# Altium footprint library MSOP8.PcbLib: 1 footprints
Each footprint in its own frame and in the unit in brackets; x right, y up, seen from the top. Pads: shape width x height; smd on the part's side, far side on the other; paste and mask are expansions set on the pad; w line width, h text height; cw(c..) or ccw(c..) is an arc to the next point about the centre after c.
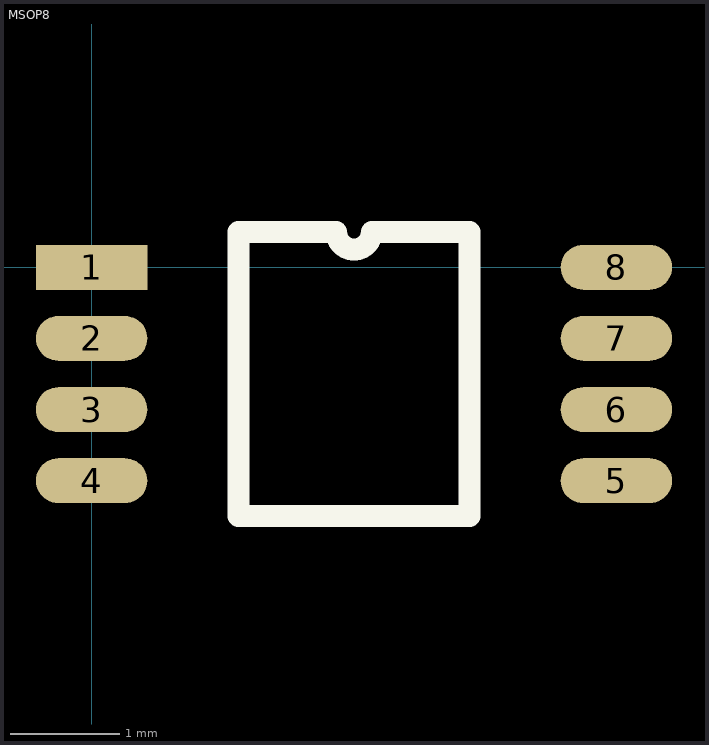
[diagram p0: the footprint, top view; thin cyan lines are the x and y axes]

## MSOP8 [mm]
pads (8):
  rect 1.02x0.41 smd: 1(0,0)
  oval 1.02x0.41 smd: 2(0,-0.65) 3(0,-1.3) 4(0,-1.95) 5(4.8,-1.95) 6(4.8,-1.3) 7(4.8,-0.65) 8(4.8,0)
Top Overlay:
  lines w0.2: 1.345,-2.275 3.455,-2.275 3.455,0.325 2.562,0.325 cw(c2.4,0.325) 2.238,0.325 1.345,0.325 1.345,-2.275